# Altium footprint library USB_TypeA_Female.PcbLib: 1 footprints
Each footprint in its own frame and in the unit in brackets; x right, y up, seen from the top. Pads: shape width x height; smd on the part's side, far side on the other; paste and mask are expansions set on the pad; w line width, h text height; cw(c..) or ccw(c..) is an arc to the next point about the centre after c.
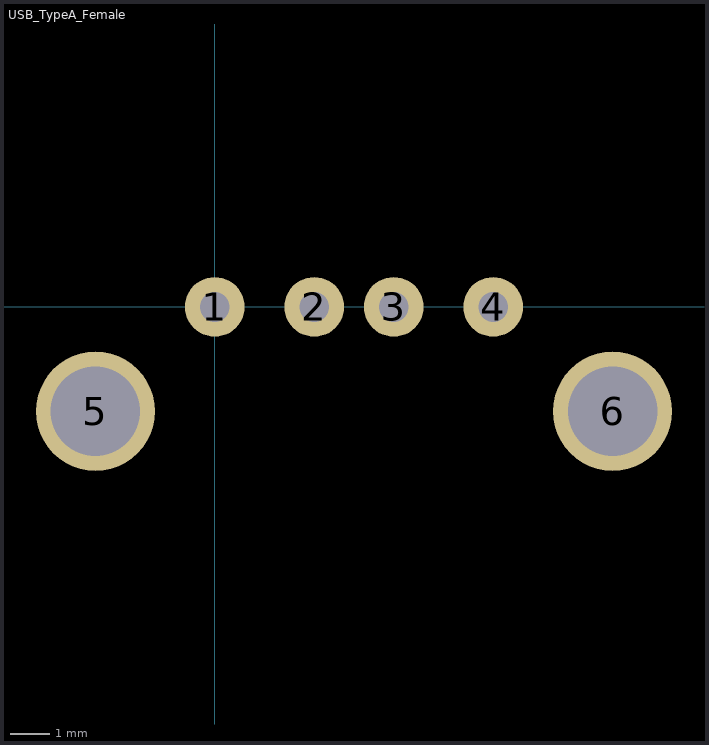
[diagram p0: the footprint, top view; thin cyan lines are the x and y axes]

## USB_TypeA_Female [mil]
pads (6):
  round 60 hole 30: 1(0,0) 2(100,0) 3(180,0) 4(280,0)
  round 120 hole 90: 5(-120,-105) 6(400,-105)
3D body "USB_TypeA_Female.STEP": height 273.62, standoff -165.35, extent -171.02,-494.37 451.03,45